# Altium schematic symbol library IC-Clock.SchLib: 5 symbols
Pins are listed as number, name and electrical type; pins without a type are passive.

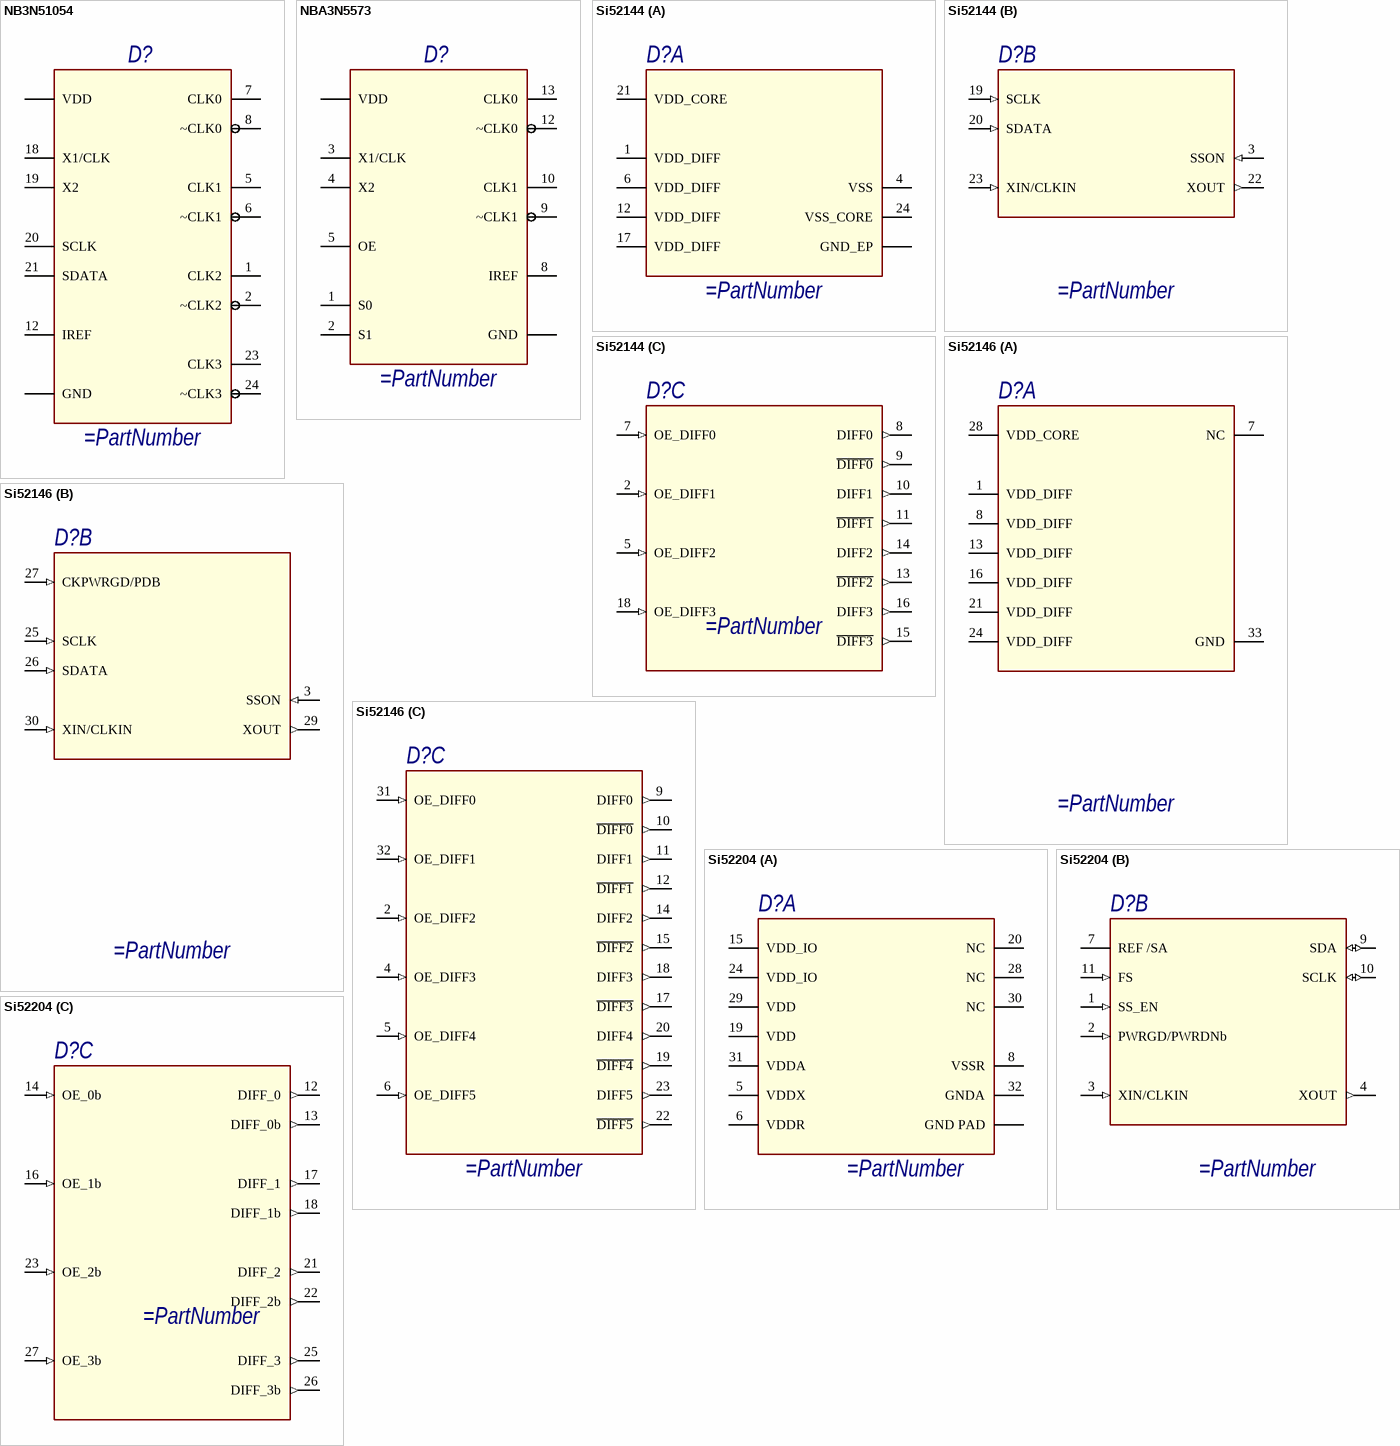
[diagram p0: symbols NB3N51054 to Si52204]

## NB3N51054
designator D?
3.3 V, Crystal to 100 MHz / Quad HCSL/LVDS PCIe / Clock Generator
pins: 1 CLK2, 2 ~CLK2, 3, 9, 11, 13, 16 GND, 4, 10, 14, 17, 22 VDD, 5 CLK1, 6 ~CLK1, 7 CLK0, 8 ~CLK0, 12 IREF, 18 X1/CLK, 19 X2, 20 SCLK, 21 SDATA, 23 CLK3, 24 ~CLK3

## NBA3N5573
designator D?
PCIe Clock Generator, / Automotive Grade, Dual / Output, 3.3 V
pins: 1 S0, 2 S1, 3 X1/CLK, 4 X2, 5 OE, 6, 7, 14, 16, EP GND, 8 IREF, 9 ~CLK1, 10 CLK1, 11, 15 VDD, 12 ~CLK0, 13 CLK0

## Si52144
designator D?
PCI-EXPRESS GEN 1, GEN 2, GEN 3, & GEN 4 FOUR OUTPUT CLOCK GENERATOR
part A pins: 1 VDD_DIFF (power), 4 VSS (power), 6 VDD_DIFF (power), 12 VDD_DIFF (power), 17 VDD_DIFF (power), 21 VDD_CORE (power), 24 VSS_CORE (power), EP GND_EP (power)
part B pins: 3 SSON (in), 19 SCLK (in), 20 SDATA (in), 22 XOUT (out), 23 XIN/CLKIN (in)
part C pins: 2 OE_DIFF1 (in), 5 OE_DIFF2 (in), 7 OE_DIFF0 (in), 8 DIFF0 (out), 9 ~{DIFF0} (out), 10 DIFF1 (out), 11 ~{DIFF1} (out), 13 ~{DIFF2} (out), 14 DIFF2 (out), 15 ~{DIFF3} (out), 16 DIFF3 (out), 18 OE_DIFF3 (in)

## Si52146
designator D?
PCI-EXPRESS GEN 1, GEN 2, GEN 3, & GEN 4 SIX OUTPUT CLOCK GENERATOR
part A pins: 1 VDD_DIFF (power), 7 NC, 8 VDD_DIFF (power), 13 VDD_DIFF (power), 16 VDD_DIFF (power), 21 VDD_DIFF (power), 24 VDD_DIFF (power), 28 VDD_CORE (power), 33 GND (power)
part B pins: 3 SSON (in), 25 SCLK (in), 26 SDATA (in), 27 CKPWRGD/PDB (in), 29 XOUT (out), 30 XIN/CLKIN (in)
part C pins: 2 OE_DIFF2 (in), 4 OE_DIFF3 (in), 5 OE_DIFF4 (in), 6 OE_DIFF5 (in), 9 DIFF0 (out), 10 ~{DIFF0} (out), 11 DIFF1 (out), 12 ~{DIFF1} (out), 14 DIFF2 (out), 15 ~{DIFF2} (out), 17 ~{DIFF3} (out), 18 DIFF3 (out), 19 ~{DIFF4} (out), 20 DIFF4 (out), 22 ~{DIFF5} (out), 23 DIFF5 (out), 31 OE_DIFF0 (in), 32 OE_DIFF1 (in)

## Si52204
designator D?
PCI-EXPRESS GEN 1- GEN 6 QUAD OUTPUT CLOCK GENERATOR
footprint QFN-32 (Quad Flat No-Lead (QFN with Tab), 0.50 mm pitch; 5.00 mm L X 5.00 mm W X 0.90 mm H body; QFN-32)
part A pins: 5 VDDX (power), 6 VDDR (power), 8 VSSR (power), 15 VDD_IO (power), 19 VDD (power), 20 NC, 24 VDD_IO (power), 28 NC, 29 VDD (power), 30 NC, 31 VDDA (power), 32 GNDA (power), EP GND PAD (power)
part B pins: 1 SS_EN (in), 2 PWRGD/PWRDNb (in), 3 XIN/CLKIN (in), 4 XOUT (out), 7 REF /SA, 9 SDA (io), 10 SCLK (io), 11 FS (in)
part C pins: 12 DIFF_0 (out), 13 DIFF_0b (out), 14 OE_0b (in), 16 OE_1b (in), 17 DIFF_1 (out), 18 DIFF_1b (out), 21 DIFF_2 (out), 22 DIFF_2b (out), 23 OE_2b (in), 25 DIFF_3 (out), 26 DIFF_3b (out), 27 OE_3b (in)